# Altium schematic symbol library SP0504-SC70.SchLib: 1 symbol
Pins are listed as number, name and electrical type; pins without a type are passive.

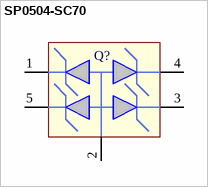
[diagram p0: symbol SP0504-SC70]

## SP0504-SC70
designator Q?  (value not drawn)
pins: 1, 2, 3, 4, 5